# Altium schematic symbol library IS42S16160D-7TL.Schlib: 1 symbol
Pins are listed as number, name and electrical type; pins without a type are passive.

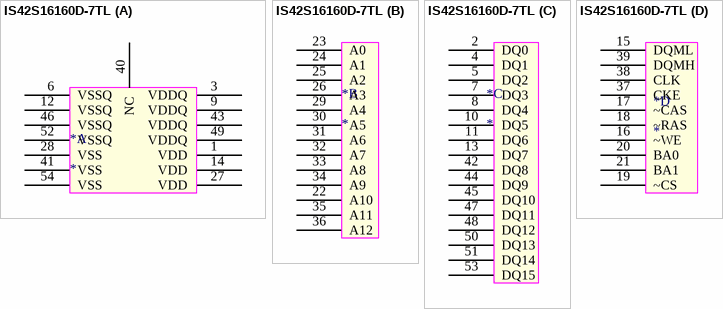
[diagram p0: symbol IS42S16160D-7TL]

## IS42S16160D-7TL
designator *
part A pins: 1 VDD, 3 VDDQ, 6 VSSQ, 9 VDDQ, 12 VSSQ, 14 VDD, 27 VDD, 28 VSS, 40 NC, 41 VSS, 43 VDDQ, 46 VSSQ, 49 VDDQ, 52 VSSQ, 54 VSS
part B pins: 22 A10, 23 A0, 24 A1, 25 A2, 26 A3, 29 A4, 30 A5, 31 A6, 32 A7, 33 A8, 34 A9, 35 A11, 36 A12
part C pins: 2 DQ0, 4 DQ1, 5 DQ2, 7 DQ3, 8 DQ4, 10 DQ5, 11 DQ6, 13 DQ7, 42 DQ8, 44 DQ9, 45 DQ10, 47 DQ11, 48 DQ12, 50 DQ13, 51 DQ14, 53 DQ15
part D pins: 15 DQML, 16 ~WE, 17 ~CAS, 18 ~RAS, 19 ~CS, 20 BA0, 21 BA1, 37 CKE, 38 CLK, 39 DQMH